# Altium schematic symbol library CLX6D-FKB.SchLib: 1 symbol
Pins are listed as number, name and electrical type; pins without a type are passive.

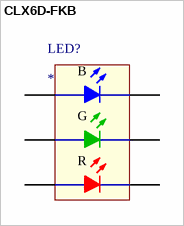
[diagram p0: symbol CLX6D-FKB]

## CLX6D-FKB
designator LED?
Cree® PLCC6 3 in 1 SMD LED  CLX6D-FKB
pins: 1 B, 2 G, 3 R, 4 R, 5 G, 6 B